# Altium schematic symbol library Resistors.SchLib: 6 symbols
Pins are listed as number, name and electrical type; pins without a type are passive.

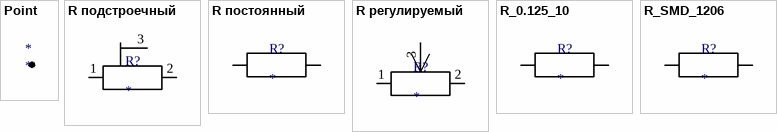
[diagram p0: symbols Point to R_SMD_1206]

## Point
designator *
footprint Point
pins: 1

## R подстроечный
designator R?
pins: 1, 2, 3

## R постоянный
designator R?
pins: 1, 2

## R регулируемый
designator R?
pins: 1, 2, 3

## R_0.125_10
designator R?
footprint R_ 0,125_10
pins: 1, 2

## R_SMD_1206
designator R?
footprint R_SMD_1206
pins: 1, 2